# EAGLE library part SC4541 (library KW2)
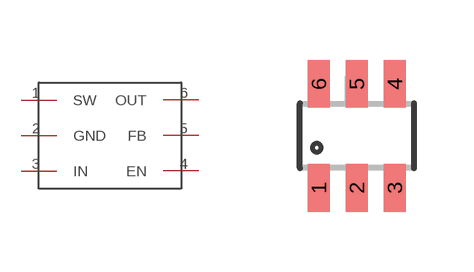
[diagram p16: symbol with the pads of SOT23-6; footprint SOT23-6]

Designator prefix -

## SC4541 (MFGN: Semtech; MFGP: SC4541)  [SOT23-6]
1  SW
2  GND
3  IN
4  EN
5  FB
6  OUT

## Footprint SOT23-6 (pad centres in mm)
smd 0.55 x 1.2: 1 -0.95,-1.3; 2 0,-1.3; 3 0.95,-1.3; 4 0.95,1.3; 5 0,1.3; 6 -0.95,1.3